# Altium schematic symbol library PCB_XEM-S91.SchLib: 15 symbols
Pins are listed as number, name and electrical type; pins without a type are passive.

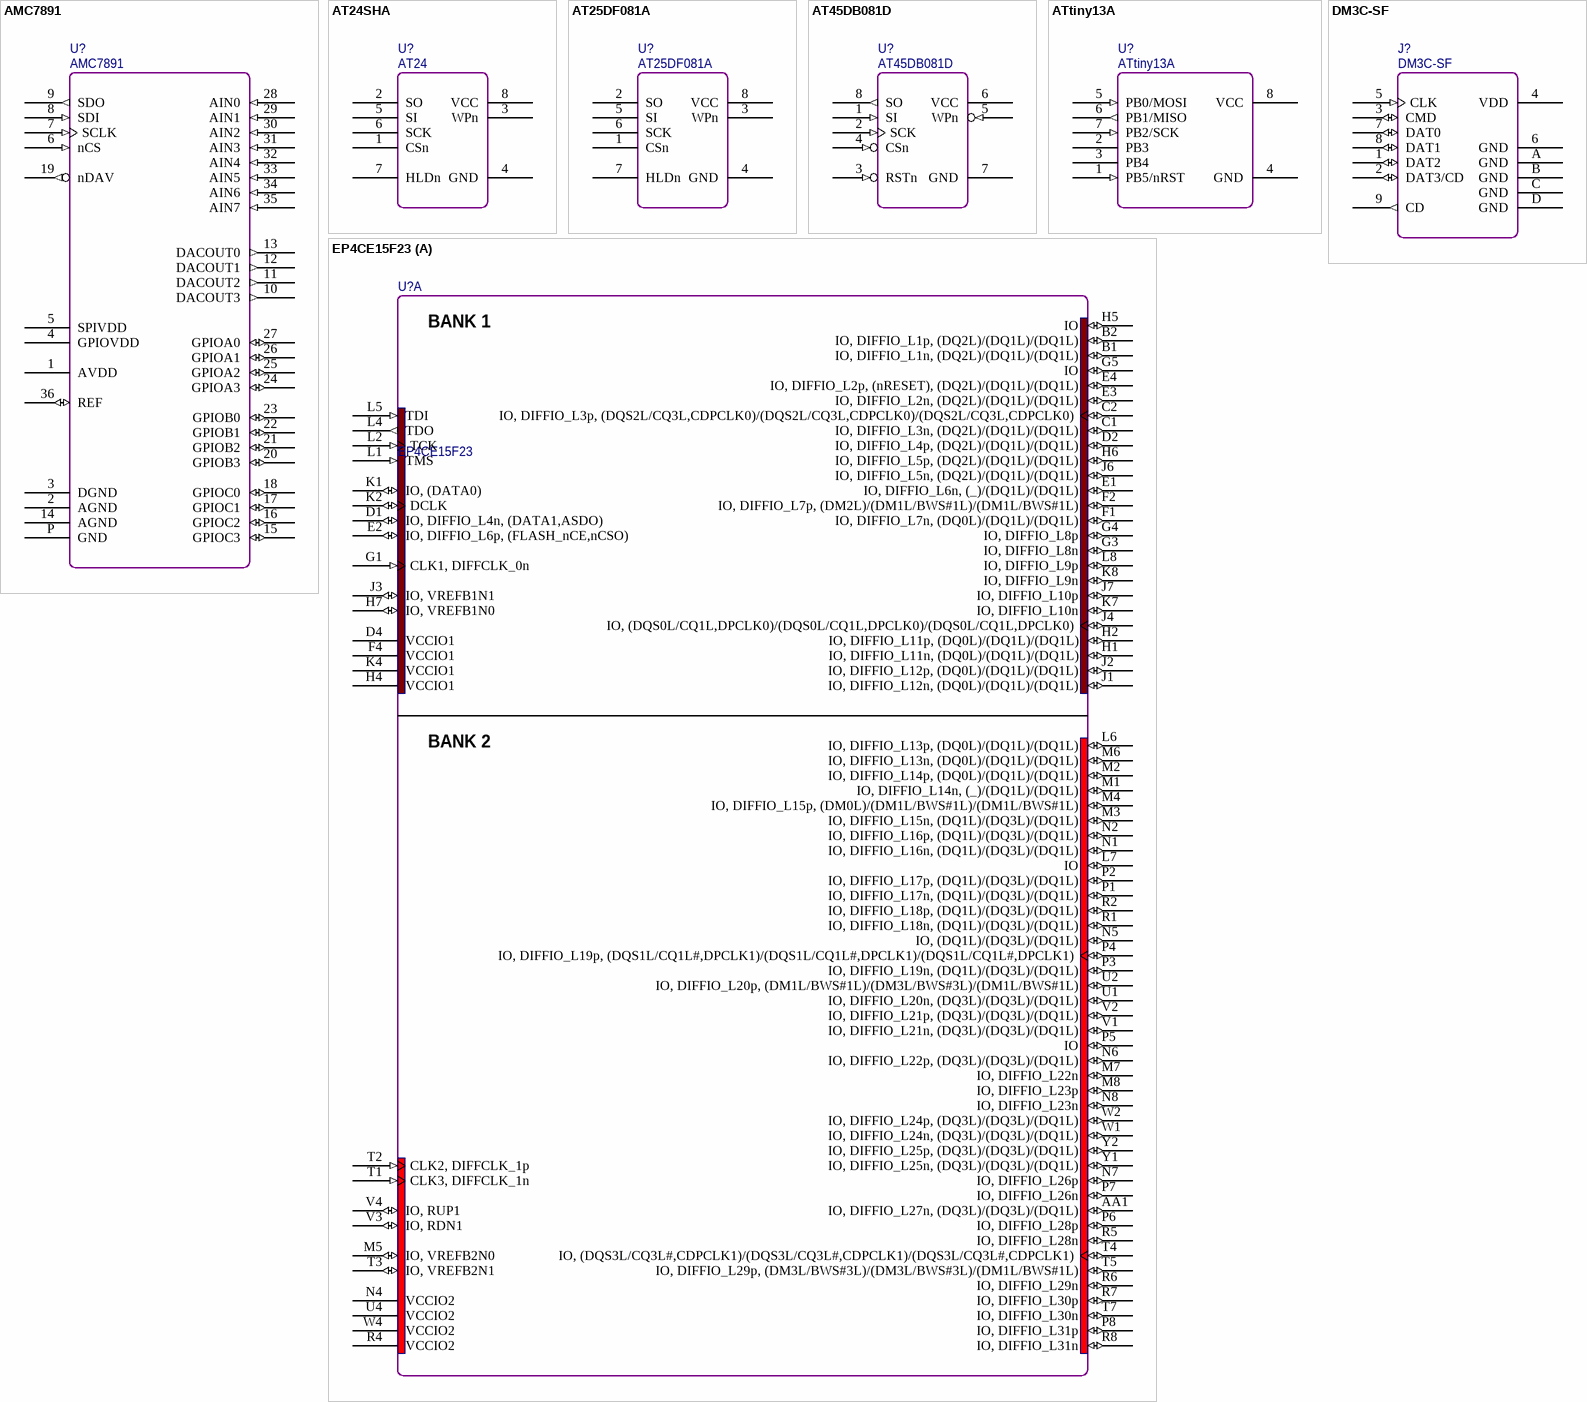
[diagram p0: symbols AMC7891 to EP4CE15F23]

## AMC7891
designator U?
Integrated DAC/ADC; Vendor: TI; SerialNumber: 0; PCBMarker: FET COMP; PinCountSMD: 37; Designer: shyul; PartNumber: AMC7891; Value: AMC7891; Version: 1.0; VersionDate: 02-22-2012; Publisher: Cowin; PinCountHole: 0
footprint QFN-6-36
pins: 1 AVDD, 2 AGND, 3 DGND, 4 GPIOVDD, 5 SPIVDD, 6 nCS (in), 7 SCLK (in), 8 SDI (in), 9 SDO (out), 10 DACOUT3 (out), 11 DACOUT2 (out), 12 DACOUT1 (out), 13 DACOUT0 (out), 14 AGND, 15 GPIOC3 (io), 16 GPIOC2 (io), 17 GPIOC1 (io), 18 GPIOC0 (io), 19 nDAV (out), 20 GPIOB3 (io), 21 GPIOB2 (io), 22 GPIOB1 (io), 23 GPIOB0 (io), 24 GPIOA3 (io), 25 GPIOA2 (io), 26 GPIOA1 (io), 27 GPIOA0 (io), 28 AIN0 (in), 29 AIN1 (in), 30 AIN2 (in), 31 AIN3 (in), 32 AIN4 (in), 33 AIN5 (in), 34 AIN6 (in), 35 AIN7 (in), 36 REF (io), P GND

## AT24SHA
designator U?, comment AT24
Atmel SPI Flash; SerialNumber: 0; PCBMarker: Secured I2C EEPROM; PinCountSMD: 8; Designer: shyul; PartNumber: AT24; Value: AT24; Vendor: Atmel; Version: 1.0; VersionDate: 03-26-2012; Publisher: Cowin; PinCountHole: 0
footprint SOIC-8S
pins: 1 CSn, 2 SO, 3 WPn, 4 GND, 5 SI, 6 SCK, 7 HLDn, 8 VCC

## AT25DF081A
designator U?
Atmel SPI Flash; PartNumber: AT25DF081A-SH; Vendor: Microchip; SerialNumber: 0; PinCountSMD: 8; Designer: shyul; Value: AT25DF081A; Version: 1.0; VersionDate: 03-26-2012; PCBMarker: SPI Flash; Publisher: Cowin; PinCountHole: 0
footprint SOIC-8W
pins: 1 CSn, 2 SO, 3 WPn, 4 GND, 5 SI, 6 SCK, 7 HLDn, 8 VCC

## AT45DB081D
designator U?
Atmel DataFlash; PartNumber: AT45DB081D-MU; Vendor: Microchip; SerialNumber: 0; PinCountSMD: 8; Designer: shyul; Value: AT45DB081D; Version: 1.0; VersionDate: 02-21-2012; PCBMarker: DataFlash; Publisher: Cowin; PinCountHole: 0
footprint SOIC-8W
pins: 1 SI (in), 2 SCK (in), 3 RSTn (in), 4 CSn (in), 5 WPn (in), 6 VCC, 7 GND, 8 SO (out)

## ATtiny13A
designator U?
Atmel SPI Flash; PartNumber: ATtiny13A-SH; Vendor: Microchip; SerialNumber: 0; PinCountSMD: 8; Designer: shyul; Value: ATtiny13A; Version: 1.0; VersionDate: 05-26-2012; PCBMarker: SPI Flash; Publisher: Cowin; PinCountHole: 0
footprint SOIC-8W
pins: 1 PB5/nRST (in), 2 PB3, 3 PB4, 4 GND, 5 PB0/MOSI (in), 6 PB1/MISO (out), 7 PB2/SCK (in), 8 VCC

## DM3C-SF
designator J?
Simple Switch 600mA Adjustable; Vendor: Hirose; PinCountSMD: 13; PinCountHole: 0; Designer: shyul; PCBMarker: SDMicro; Value: DM3C-SF; PartNumber: DM3C-SF; Version: 1.0; VersionDate: 02-23-2012; SerialNumber: 0; Publisher: Cowin
footprint DM3C-SF
pins: 1 DAT2 (io), 2 DAT3/CD (io), 3 CMD (io), 4 VDD, 5 CLK (in), 6 GND, 7 DAT0 (io), 8 DAT1 (io), 9 CD (out), A GND, B GND, C GND, D GND
2 alternate drawings of the same symbol

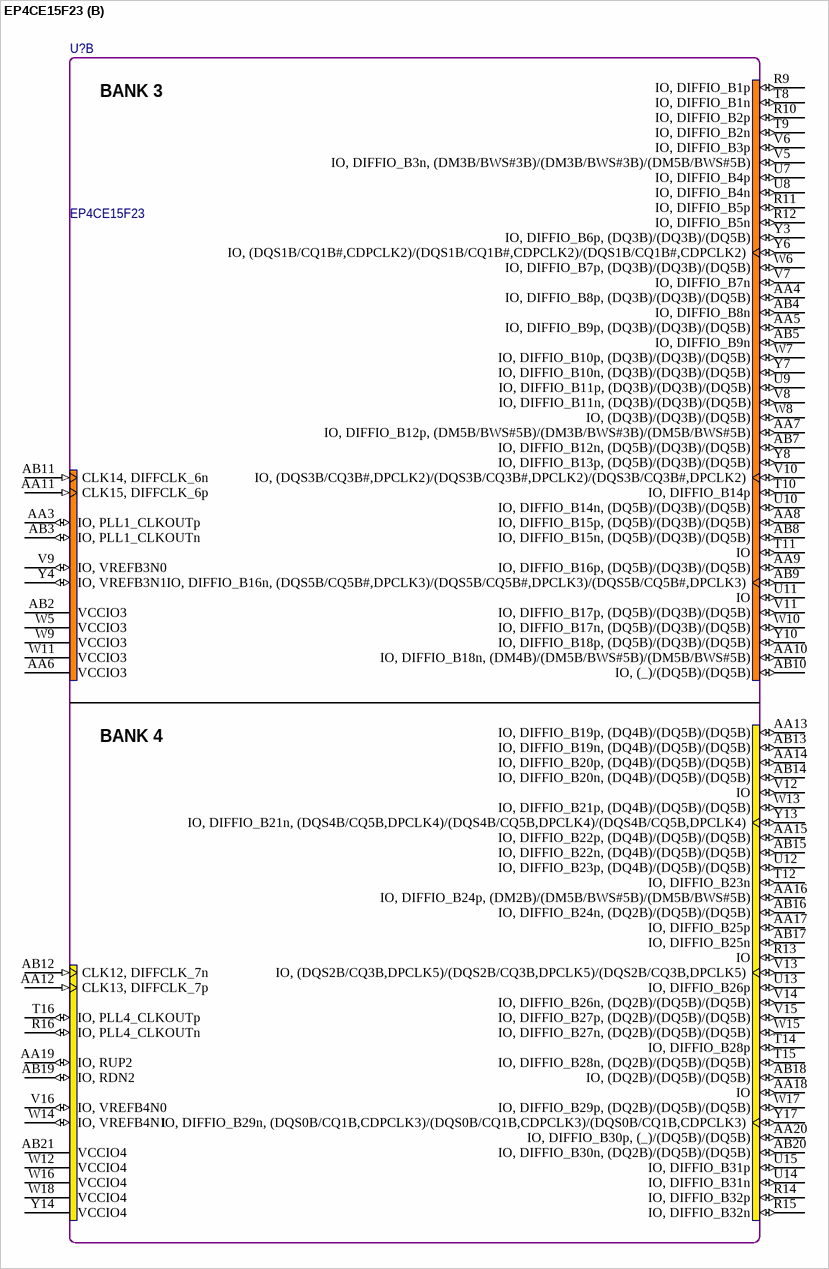
[diagram p1: symbol EP4CE15F23]

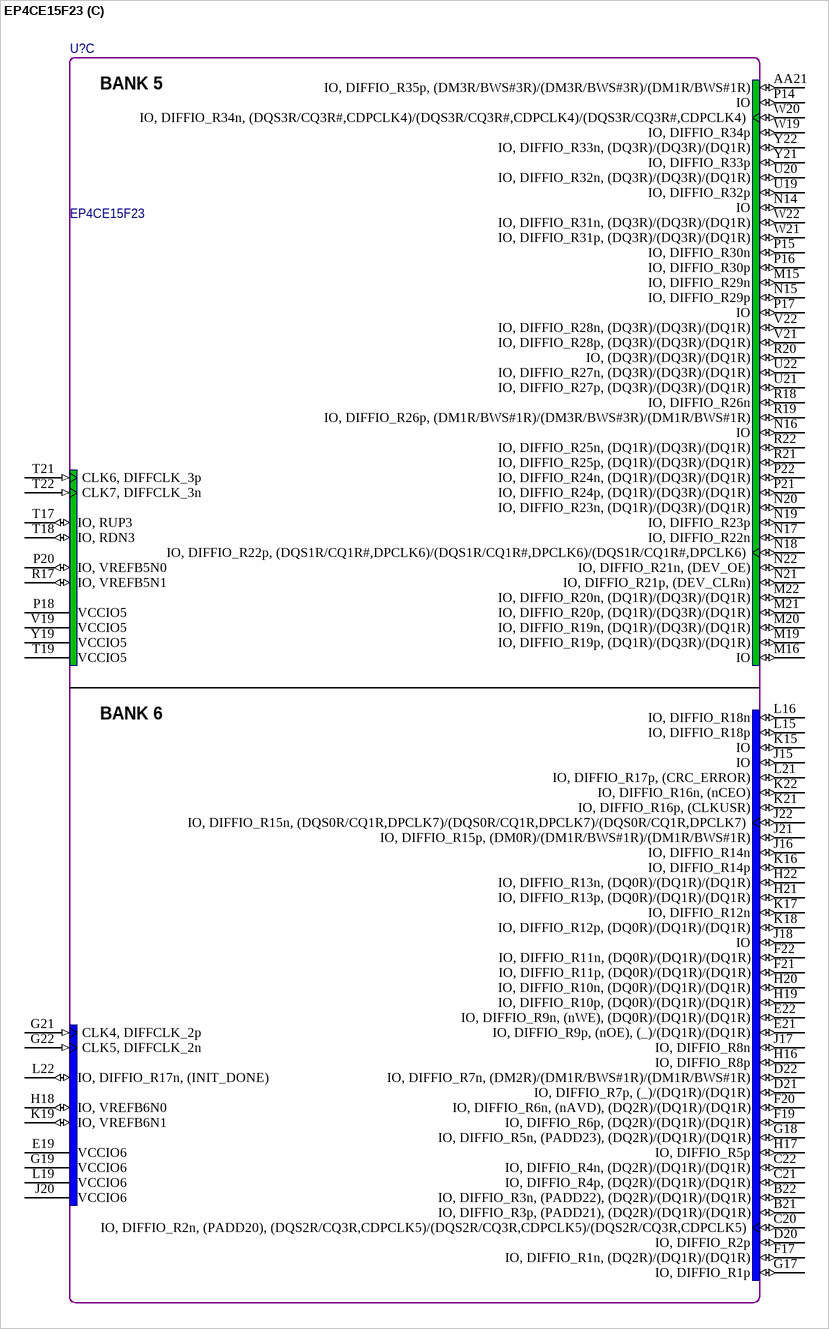
[diagram p2: symbol EP4CE15F23]

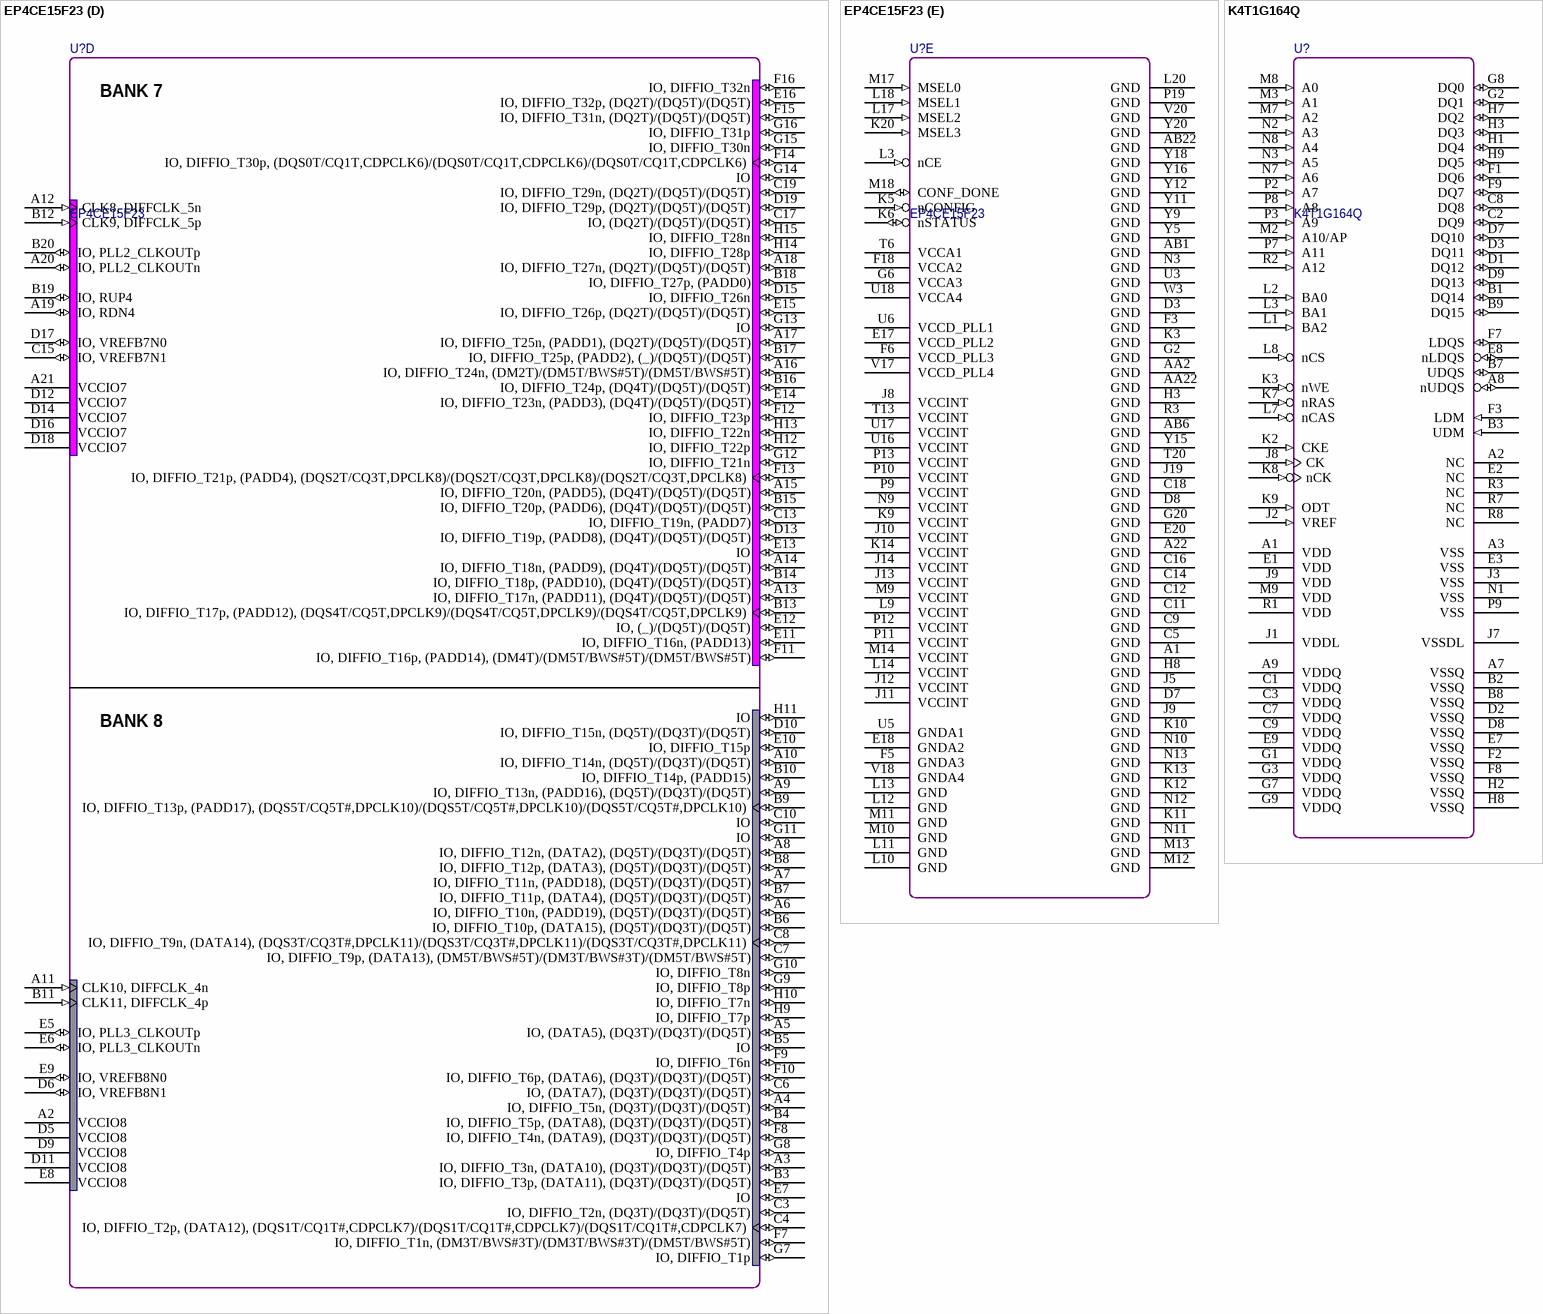
[diagram p3: symbols EP4CE15F23 to K4T1G164Q]

## EP4CE15F23
designator U?
Cyclone IV EP4CE15F23 FPGA; PartNumber: EP4CE15F23C8N; SerialNumber: 0; Vendor: Altera; Designer: shyul; PCBMarker: FPGA; Version: 1.0; VersionDate: 2-17-2012; Value: EP4CE15F23; Publisher: Cowin
footprint FBGA-484 (BGA, 484-Leads, Body 23x23mm, Pitch 1mm)
part A pins: AA1 IO, DIFFIO_L27n, (DQ3L)/(DQ3L)/(DQ1L) (io), B1 IO, DIFFIO_L1n, (DQ2L)/(DQ1L)/(DQ1L) (io), B2 IO, DIFFIO_L1p, (DQ2L)/(DQ1L)/(DQ1L) (io), C1 IO, DIFFIO_L3n, (DQ2L)/(DQ1L)/(DQ1L) (io), C2 IO, DIFFIO_L3p, (DQS2L/CQ3L,CDPCLK0)/(DQS2L/CQ3L,CDPCLK0)/(DQS2L/CQ3L,CDPCLK0) (io), D1 IO, DIFFIO_L4n, (DATA1,ASDO) (io), D2 IO, DIFFIO_L4p, (DQ2L)/(DQ1L)/(DQ1L) (io), D4 VCCIO1 (power), E1 IO, DIFFIO_L6n, (_)/(DQ1L)/(DQ1L) (io), E2 IO, DIFFIO_L6p, (FLASH_nCE,nCSO) (io), E3 IO, DIFFIO_L2n, (DQ2L)/(DQ1L)/(DQ1L) (io), E4 IO, DIFFIO_L2p, (nRESET), (DQ2L)/(DQ1L)/(DQ1L) (io), F1 IO, DIFFIO_L7n, (DQ0L)/(DQ1L)/(DQ1L) (io), F2 IO, DIFFIO_L7p, (DM2L)/(DM1L/BWS#1L)/(DM1L/BWS#1L) (io), F4 VCCIO1 (power), G1 CLK1, DIFFCLK_0n (in), G3 IO, DIFFIO_L8n (io), G4 IO, DIFFIO_L8p (io), G5 IO (io), H1 IO, DIFFIO_L11n, (DQ0L)/(DQ1L)/(DQ1L) (io), H2 IO, DIFFIO_L11p, (DQ0L)/(DQ1L)/(DQ1L) (io), H4 VCCIO1 (power), H5 IO (io), H6 IO, DIFFIO_L5p, (DQ2L)/(DQ1L)/(DQ1L) (io), H7 IO, VREFB1N0 (io), J1 IO, DIFFIO_L12n, (DQ0L)/(DQ1L)/(DQ1L) (io), J2 IO, DIFFIO_L12p, (DQ0L)/(DQ1L)/(DQ1L) (io), J3 IO, VREFB1N1 (io), J4 IO, (DQS0L/CQ1L,DPCLK0)/(DQS0L/CQ1L,DPCLK0)/(DQS0L/CQ1L,DPCLK0) (io), J6 IO, DIFFIO_L5n, (DQ2L)/(DQ1L)/(DQ1L) (io), J7 IO, DIFFIO_L10p (io), K1 IO, (DATA0) (io), K2 DCLK (io), K4 VCCIO1 (power), K7 IO, DIFFIO_L10n (io), K8 IO, DIFFIO_L9n (io), L1 TMS (in), L2 TCK (in), L4 TDO (out), L5 TDI (in), L6 IO, DIFFIO_L13p, (DQ0L)/(DQ1L)/(DQ1L) (io), L7 IO (io), L8 IO, DIFFIO_L9p (io), M1 IO, DIFFIO_L14n, (_)/(DQ1L)/(DQ1L) (io), M2 IO, DIFFIO_L14p, (DQ0L)/(DQ1L)/(DQ1L) (io), M3 IO, DIFFIO_L15n, (DQ1L)/(DQ3L)/(DQ1L) (io), M4 IO, DIFFIO_L15p, (DM0L)/(DM1L/BWS#1L)/(DM1L/BWS#1L) (io), M5 IO, VREFB2N0 (io), M6 IO, DIFFIO_L13n, (DQ0L)/(DQ1L)/(DQ1L) (io), M7 IO, DIFFIO_L22n (io), M8 IO, DIFFIO_L23p (io), N1 IO, DIFFIO_L16n, (DQ1L)/(DQ3L)/(DQ1L) (io), N2 IO, DIFFIO_L16p, (DQ1L)/(DQ3L)/(DQ1L) (io), N4 VCCIO2 (power), N5 IO, (DQ1L)/(DQ3L)/(DQ1L) (io), N6 IO, DIFFIO_L22p, (DQ3L)/(DQ3L)/(DQ1L) (io), N7 IO, DIFFIO_L26p (io), N8 IO, DIFFIO_L23n (io), P1 IO, DIFFIO_L17n, (DQ1L)/(DQ3L)/(DQ1L) (io), P2 IO, DIFFIO_L17p, (DQ1L)/(DQ3L)/(DQ1L) (io), P3 IO, DIFFIO_L19n, (DQ1L)/(DQ3L)/(DQ1L) (io), P4 IO, DIFFIO_L19p, (DQS1L/CQ1L#,DPCLK1)/(DQS1L/CQ1L#,DPCLK1)/(DQS1L/CQ1L#,DPCLK1) (io), P5 IO (io), P6 IO, DIFFIO_L28p (io), P7 IO, DIFFIO_L26n (io), P8 IO, DIFFIO_L31p (io), R1 IO, DIFFIO_L18n, (DQ1L)/(DQ3L)/(DQ1L) (io), R2 IO, DIFFIO_L18p, (DQ1L)/(DQ3L)/(DQ1L) (io), R4 VCCIO2 (power), R5 IO, DIFFIO_L28n (io), R6 IO, DIFFIO_L29n (io), R7 IO, DIFFIO_L30p (io), R8 IO, DIFFIO_L31n (io), T1 CLK3, DIFFCLK_1n (in), T2 CLK2, DIFFCLK_1p (in), T3 IO, VREFB2N1 (io), T4 IO, (DQS3L/CQ3L#,CDPCLK1)/(DQS3L/CQ3L#,CDPCLK1)/(DQS3L/CQ3L#,CDPCLK1) (io), T5 IO, DIFFIO_L29p, (DM3L/BWS#3L)/(DM3L/BWS#3L)/(DM1L/BWS#1L) (io), T7 IO, DIFFIO_L30n (io), U1 IO, DIFFIO_L20n, (DQ3L)/(DQ3L)/(DQ1L) (io), U2 IO, DIFFIO_L20p, (DM1L/BWS#1L)/(DM3L/BWS#3L)/(DM1L/BWS#1L) (io), U4 VCCIO2 (power), V1 IO, DIFFIO_L21n, (DQ3L)/(DQ3L)/(DQ1L) (io), V2 IO, DIFFIO_L21p, (DQ3L)/(DQ3L)/(DQ1L) (io), V3 IO, RDN1 (io), V4 IO, RUP1 (io), W1 IO, DIFFIO_L24n, (DQ3L)/(DQ3L)/(DQ1L) (io), W2 IO, DIFFIO_L24p, (DQ3L)/(DQ3L)/(DQ1L) (io), W4 VCCIO2 (power), Y1 IO, DIFFIO_L25n, (DQ3L)/(DQ3L)/(DQ1L) (io), Y2 IO, DIFFIO_L25p, (DQ3L)/(DQ3L)/(DQ1L) (io)
part B pins: AA3 IO, PLL1_CLKOUTp (io), AA4 IO, DIFFIO_B8p, (DQ3B)/(DQ3B)/(DQ5B) (io), AA5 IO, DIFFIO_B9p, (DQ3B)/(DQ3B)/(DQ5B) (io), AA6 VCCIO3 (power), AA7 IO, DIFFIO_B12p, (DM5B/BWS#5B)/(DM3B/BWS#3B)/(DM5B/BWS#5B) (io), AA8 IO, DIFFIO_B15p, (DQ5B)/(DQ3B)/(DQ5B) (io), AA9 IO, DIFFIO_B16p, (DQ5B)/(DQ3B)/(DQ5B) (io), AA10 IO, DIFFIO_B18n, (DM4B)/(DM5B/BWS#5B)/(DM5B/BWS#5B) (io), AA11 CLK15, DIFFCLK_6p (in), AA12 CLK13, DIFFCLK_7p (in), AA13 IO, DIFFIO_B19p, (DQ4B)/(DQ5B)/(DQ5B) (io), AA14 IO, DIFFIO_B20p, (DQ4B)/(DQ5B)/(DQ5B) (io), AA15 IO, DIFFIO_B22p, (DQ4B)/(DQ5B)/(DQ5B) (io), AA16 IO, DIFFIO_B24p, (DM2B)/(DM5B/BWS#5B)/(DM5B/BWS#5B) (io), AA17 IO, DIFFIO_B25p (io), AA18 IO (io), AA19 IO, RUP2 (io), AA20 IO, DIFFIO_B30p, (_)/(DQ5B)/(DQ5B) (io), AB2 VCCIO3 (power), AB3 IO, PLL1_CLKOUTn (io), AB4 IO, DIFFIO_B8n (io), AB5 IO, DIFFIO_B9n (io), AB7 IO, DIFFIO_B12n, (DQ5B)/(DQ3B)/(DQ5B) (io), AB8 IO, DIFFIO_B15n, (DQ5B)/(DQ3B)/(DQ5B) (io), AB9 IO, DIFFIO_B16n, (DQS5B/CQ5B#,DPCLK3)/(DQS5B/CQ5B#,DPCLK3)/(DQS5B/CQ5B#,DPCLK3) (io), AB10 IO, (_)/(DQ5B)/(DQ5B) (io), AB11 CLK14, DIFFCLK_6n (in), AB12 CLK12, DIFFCLK_7n (in), AB13 IO, DIFFIO_B19n, (DQ4B)/(DQ5B)/(DQ5B) (io), AB14 IO, DIFFIO_B20n, (DQ4B)/(DQ5B)/(DQ5B) (io), AB15 IO, DIFFIO_B22n, (DQ4B)/(DQ5B)/(DQ5B) (io), AB16 IO, DIFFIO_B24n, (DQ2B)/(DQ5B)/(DQ5B) (io), AB17 IO, DIFFIO_B25n (io), AB18 IO, (DQ2B)/(DQ5B)/(DQ5B) (io), AB19 IO, RDN2 (io), AB20 IO, DIFFIO_B30n, (DQ2B)/(DQ5B)/(DQ5B) (io), AB21 VCCIO4 (power), R9 IO, DIFFIO_B1p (io), R10 IO, DIFFIO_B2p (io), R11 IO, DIFFIO_B5p (io), R12 IO, DIFFIO_B5n (io), R13 IO (io), R14 IO, DIFFIO_B32p (io), R15 IO, DIFFIO_B32n (io), R16 IO, PLL4_CLKOUTn (io), T8 IO, DIFFIO_B1n (io), T9 IO, DIFFIO_B2n (io), T10 IO, DIFFIO_B14p (io), T11 IO (io), T12 IO, DIFFIO_B23n (io), T14 IO, DIFFIO_B28p (io), T15 IO, DIFFIO_B28n, (DQ2B)/(DQ5B)/(DQ5B) (io), T16 IO, PLL4_CLKOUTp (io), U7 IO, DIFFIO_B4p (io), U8 IO, DIFFIO_B4n (io), U9 IO, DIFFIO_B11p, (DQ3B)/(DQ3B)/(DQ5B) (io), U10 IO, DIFFIO_B14n, (DQ5B)/(DQ3B)/(DQ5B) (io), U11 IO (io), U12 IO, DIFFIO_B23p, (DQ4B)/(DQ5B)/(DQ5B) (io), U13 IO, DIFFIO_B26p (io), U14 IO, DIFFIO_B31n (io), U15 IO, DIFFIO_B31p (io), V5 IO, DIFFIO_B3n, (DM3B/BWS#3B)/(DM3B/BWS#3B)/(DM5B/BWS#5B) (io), V6 IO, DIFFIO_B3p (io), V7 IO, DIFFIO_B7n (io), V8 IO, DIFFIO_B11n, (DQ3B)/(DQ3B)/(DQ5B) (io), V9 IO, VREFB3N0 (io), V10 IO, (DQS3B/CQ3B#,DPCLK2)/(DQS3B/CQ3B#,DPCLK2)/(DQS3B/CQ3B#,DPCLK2) (io), V11 IO, DIFFIO_B17p, (DQ5B)/(DQ3B)/(DQ5B) (io), V12 IO (io), V13 IO, (DQS2B/CQ3B,DPCLK5)/(DQS2B/CQ3B,DPCLK5)/(DQS2B/CQ3B,DPCLK5) (io), V14 IO, DIFFIO_B26n, (DQ2B)/(DQ5B)/(DQ5B) (io), V15 IO, DIFFIO_B27p, (DQ2B)/(DQ5B)/(DQ5B) (io), V16 IO, VREFB4N0 (io), W5 VCCIO3 (power), W6 IO, DIFFIO_B7p, (DQ3B)/(DQ3B)/(DQ5B) (io), W7 IO, DIFFIO_B10p, (DQ3B)/(DQ3B)/(DQ5B) (io), W8 IO, (DQ3B)/(DQ3B)/(DQ5B) (io), W9 VCCIO3 (power), W10 IO, DIFFIO_B17n, (DQ5B)/(DQ3B)/(DQ5B) (io), W11 VCCIO3 (power), W12 VCCIO4 (power), W13 IO, DIFFIO_B21p, (DQ4B)/(DQ5B)/(DQ5B) (io), W14 IO, VREFB4N1 (io), W15 IO, DIFFIO_B27n, (DQ2B)/(DQ5B)/(DQ5B) (io), W16 VCCIO4 (power), W17 IO, DIFFIO_B29p, (DQ2B)/(DQ5B)/(DQ5B) (io), W18 VCCIO4 (power), Y3 IO, DIFFIO_B6p, (DQ3B)/(DQ3B)/(DQ5B) (io), Y4 IO, VREFB3N1 (io), Y6 IO, (DQS1B/CQ1B#,CDPCLK2)/(DQS1B/CQ1B#,CDPCLK2)/(DQS1B/CQ1B#,CDPCLK2) (io), Y7 IO, DIFFIO_B10n, (DQ3B)/(DQ3B)/(DQ5B) (io), Y8 IO, DIFFIO_B13p, (DQ5B)/(DQ3B)/(DQ5B) (io), Y10 IO, DIFFIO_B18p, (DQ5B)/(DQ3B)/(DQ5B) (io), Y13 IO, DIFFIO_B21n, (DQS4B/CQ5B,DPCLK4)/(DQS4B/CQ5B,DPCLK4)/(DQS4B/CQ5B,DPCLK4) (io), Y14 VCCIO4 (power), Y17 IO, DIFFIO_B29n, (DQS0B/CQ1B,CDPCLK3)/(DQS0B/CQ1B,CDPCLK3)/(DQS0B/CQ1B,CDPCLK3) (io)
part C pins: AA21 IO, DIFFIO_R35p, (DM3R/BWS#3R)/(DM3R/BWS#3R)/(DM1R/BWS#1R) (io), B21 IO, DIFFIO_R3p, (PADD21), (DQ2R)/(DQ1R)/(DQ1R) (io), B22 IO, DIFFIO_R3n, (PADD22), (DQ2R)/(DQ1R)/(DQ1R) (io), C20 IO, DIFFIO_R2n, (PADD20), (DQS2R/CQ3R,CDPCLK5)/(DQS2R/CQ3R,CDPCLK5)/(DQS2R/CQ3R,CDPCLK5) (io), C21 IO, DIFFIO_R4p, (DQ2R)/(DQ1R)/(DQ1R) (io), C22 IO, DIFFIO_R4n, (DQ2R)/(DQ1R)/(DQ1R) (io), D20 IO, DIFFIO_R2p (io), D21 IO, DIFFIO_R7p, (_)/(DQ1R)/(DQ1R) (io), D22 IO, DIFFIO_R7n, (DM2R)/(DM1R/BWS#1R)/(DM1R/BWS#1R) (io), E19 VCCIO6 (power), E21 IO, DIFFIO_R9p, (nOE), (_)/(DQ1R)/(DQ1R) (io), E22 IO, DIFFIO_R9n, (nWE), (DQ0R)/(DQ1R)/(DQ1R) (io), F17 IO, DIFFIO_R1n, (DQ2R)/(DQ1R)/(DQ1R) (io), F19 IO, DIFFIO_R6p, (DQ2R)/(DQ1R)/(DQ1R) (io), F20 IO, DIFFIO_R6n, (nAVD), (DQ2R)/(DQ1R)/(DQ1R) (io), F21 IO, DIFFIO_R11p, (DQ0R)/(DQ1R)/(DQ1R) (io), F22 IO, DIFFIO_R11n, (DQ0R)/(DQ1R)/(DQ1R) (io), G17 IO, DIFFIO_R1p (io), G18 IO, DIFFIO_R5n, (PADD23), (DQ2R)/(DQ1R)/(DQ1R) (io), G19 VCCIO6 (power), G21 CLK4, DIFFCLK_2p (in), G22 CLK5, DIFFCLK_2n (in), H16 IO, DIFFIO_R8p (io), H17 IO, DIFFIO_R5p (io), H18 IO, VREFB6N0 (io), H19 IO, DIFFIO_R10p, (DQ0R)/(DQ1R)/(DQ1R) (io), H20 IO, DIFFIO_R10n, (DQ0R)/(DQ1R)/(DQ1R) (io), H21 IO, DIFFIO_R13p, (DQ0R)/(DQ1R)/(DQ1R) (io), H22 IO, DIFFIO_R13n, (DQ0R)/(DQ1R)/(DQ1R) (io), J15 IO (io), J16 IO, DIFFIO_R14n (io), J17 IO, DIFFIO_R8n (io), J18 IO (io), J20 VCCIO6 (power), J21 IO, DIFFIO_R15p, (DM0R)/(DM1R/BWS#1R)/(DM1R/BWS#1R) (io), J22 IO, DIFFIO_R15n, (DQS0R/CQ1R,DPCLK7)/(DQS0R/CQ1R,DPCLK7)/(DQS0R/CQ1R,DPCLK7) (io), K15 IO (io), K16 IO, DIFFIO_R14p (io), K17 IO, DIFFIO_R12n (io), K18 IO, DIFFIO_R12p, (DQ0R)/(DQ1R)/(DQ1R) (io), K19 IO, VREFB6N1 (io), K21 IO, DIFFIO_R16p, (CLKUSR) (io), K22 IO, DIFFIO_R16n, (nCEO) (io), L15 IO, DIFFIO_R18p (io), L16 IO, DIFFIO_R18n (io), L19 VCCIO6 (power), L21 IO, DIFFIO_R17p, (CRC_ERROR) (io), L22 IO, DIFFIO_R17n, (INIT_DONE) (io), M15 IO, DIFFIO_R29n (io), M16 IO (io), M19 IO, DIFFIO_R19p, (DQ1R)/(DQ3R)/(DQ1R) (io), M20 IO, DIFFIO_R19n, (DQ1R)/(DQ3R)/(DQ1R) (io), M21 IO, DIFFIO_R20p, (DQ1R)/(DQ3R)/(DQ1R) (io), M22 IO, DIFFIO_R20n, (DQ1R)/(DQ3R)/(DQ1R) (io), N14 IO (io), N15 IO, DIFFIO_R29p (io), N16 IO (io), N17 IO, DIFFIO_R22n (io), N18 IO, DIFFIO_R22p, (DQS1R/CQ1R#,DPCLK6)/(DQS1R/CQ1R#,DPCLK6)/(DQS1R/CQ1R#,DPCLK6) (io), N19 IO, DIFFIO_R23p (io), N20 IO, DIFFIO_R23n, (DQ1R)/(DQ3R)/(DQ1R) (io), N21 IO, DIFFIO_R21p, (DEV_CLRn) (io), N22 IO, DIFFIO_R21n, (DEV_OE) (io), P14 IO (io), P15 IO, DIFFIO_R30n (io), P16 IO, DIFFIO_R30p (io), P17 IO (io), P18 VCCIO5 (power), P20 IO, VREFB5N0 (io), P21 IO, DIFFIO_R24p, (DQ1R)/(DQ3R)/(DQ1R) (io), P22 IO, DIFFIO_R24n, (DQ1R)/(DQ3R)/(DQ1R) (io), R17 IO, VREFB5N1 (io), R18 IO, DIFFIO_R26n (io), R19 IO, DIFFIO_R26p, (DM1R/BWS#1R)/(DM3R/BWS#3R)/(DM1R/BWS#1R) (io), R20 IO, (DQ3R)/(DQ3R)/(DQ1R) (io), R21 IO, DIFFIO_R25p, (DQ1R)/(DQ3R)/(DQ1R) (io), R22 IO, DIFFIO_R25n, (DQ1R)/(DQ3R)/(DQ1R) (io), T17 IO, RUP3 (io), T18 IO, RDN3 (io), T19 VCCIO5 (power), T21 CLK6, DIFFCLK_3p (in), T22 CLK7, DIFFCLK_3n (in), U19 IO, DIFFIO_R32p (io), U20 IO, DIFFIO_R32n, (DQ3R)/(DQ3R)/(DQ1R) (io), U21 IO, DIFFIO_R27p, (DQ3R)/(DQ3R)/(DQ1R) (io), U22 IO, DIFFIO_R27n, (DQ3R)/(DQ3R)/(DQ1R) (io), V19 VCCIO5 (power), V21 IO, DIFFIO_R28p, (DQ3R)/(DQ3R)/(DQ1R) (io), V22 IO, DIFFIO_R28n, (DQ3R)/(DQ3R)/(DQ1R) (io), W19 IO, DIFFIO_R34p (io), W20 IO, DIFFIO_R34n, (DQS3R/CQ3R#,CDPCLK4)/(DQS3R/CQ3R#,CDPCLK4)/(DQS3R/CQ3R#,CDPCLK4) (io), W21 IO, DIFFIO_R31p, (DQ3R)/(DQ3R)/(DQ1R) (io), W22 IO, DIFFIO_R31n, (DQ3R)/(DQ3R)/(DQ1R) (io), Y19 VCCIO5 (power), Y21 IO, DIFFIO_R33p (io), Y22 IO, DIFFIO_R33n, (DQ3R)/(DQ3R)/(DQ1R) (io)
part D pins: A2 VCCIO8 (power), A3 IO, DIFFIO_T3n, (DATA10), (DQ3T)/(DQ3T)/(DQ5T) (io), A4 IO, DIFFIO_T5n, (DQ3T)/(DQ3T)/(DQ5T) (io), A5 IO, (DATA5), (DQ3T)/(DQ3T)/(DQ5T) (io), A6 IO, DIFFIO_T10n, (PADD19), (DQ5T)/(DQ3T)/(DQ5T) (io), A7 IO, DIFFIO_T11n, (PADD18), (DQ5T)/(DQ3T)/(DQ5T) (io), A8 IO, DIFFIO_T12n, (DATA2), (DQ5T)/(DQ3T)/(DQ5T) (io), A9 IO, DIFFIO_T13n, (PADD16), (DQ5T)/(DQ3T)/(DQ5T) (io), A10 IO, DIFFIO_T14n, (DQ5T)/(DQ3T)/(DQ5T) (io), A11 CLK10, DIFFCLK_4n (in), A12 CLK8, DIFFCLK_5n (in), A13 IO, DIFFIO_T17n, (PADD11), (DQ4T)/(DQ5T)/(DQ5T) (io), A14 IO, DIFFIO_T18n, (PADD9), (DQ4T)/(DQ5T)/(DQ5T) (io), A15 IO, DIFFIO_T20n, (PADD5), (DQ4T)/(DQ5T)/(DQ5T) (io), A16 IO, DIFFIO_T24n, (DM2T)/(DM5T/BWS#5T)/(DM5T/BWS#5T) (io), A17 IO, DIFFIO_T25n, (PADD1), (DQ2T)/(DQ5T)/(DQ5T) (io), A18 IO, DIFFIO_T27n, (DQ2T)/(DQ5T)/(DQ5T) (io), A19 IO, RDN4 (io), A20 IO, PLL2_CLKOUTn (io), A21 VCCIO7 (power), B3 IO, DIFFIO_T3p, (DATA11), (DQ3T)/(DQ3T)/(DQ5T) (io), B4 IO, DIFFIO_T5p, (DATA8), (DQ3T)/(DQ3T)/(DQ5T) (io), B5 IO (io), B6 IO, DIFFIO_T10p, (DATA15), (DQ5T)/(DQ3T)/(DQ5T) (io), B7 IO, DIFFIO_T11p, (DATA4), (DQ5T)/(DQ3T)/(DQ5T) (io), B8 IO, DIFFIO_T12p, (DATA3), (DQ5T)/(DQ3T)/(DQ5T) (io), B9 IO, DIFFIO_T13p, (PADD17), (DQS5T/CQ5T#,DPCLK10)/(DQS5T/CQ5T#,DPCLK10)/(DQS5T/CQ5T#,DPCLK10) (io), B10 IO, DIFFIO_T14p, (PADD15) (io), B11 CLK11, DIFFCLK_4p (in), B12 CLK9, DIFFCLK_5p (in), B13 IO, DIFFIO_T17p, (PADD12), (DQS4T/CQ5T,DPCLK9)/(DQS4T/CQ5T,DPCLK9)/(DQS4T/CQ5T,DPCLK9) (io), B14 IO, DIFFIO_T18p, (PADD10), (DQ4T)/(DQ5T)/(DQ5T) (io), B15 IO, DIFFIO_T20p, (PADD6), (DQ4T)/(DQ5T)/(DQ5T) (io), B16 IO, DIFFIO_T24p, (DQ4T)/(DQ5T)/(DQ5T) (io), B17 IO, DIFFIO_T25p, (PADD2), (_)/(DQ5T)/(DQ5T) (io), B18 IO, DIFFIO_T27p, (PADD0) (io), B19 IO, RUP4 (io), B20 IO, PLL2_CLKOUTp (io), C3 IO, DIFFIO_T2n, (DQ3T)/(DQ3T)/(DQ5T) (io), C4 IO, DIFFIO_T2p, (DATA12), (DQS1T/CQ1T#,CDPCLK7)/(DQS1T/CQ1T#,CDPCLK7)/(DQS1T/CQ1T#,CDPCLK7) (io), C6 IO, (DATA7), (DQ3T)/(DQ3T)/(DQ5T) (io), C7 IO, DIFFIO_T9p, (DATA13), (DM5T/BWS#5T)/(DM3T/BWS#3T)/(DM5T/BWS#5T) (io), C8 IO, DIFFIO_T9n, (DATA14), (DQS3T/CQ3T#,DPCLK11)/(DQS3T/CQ3T#,DPCLK11)/(DQS3T/CQ3T#,DPCLK11) (io), C10 IO (io), C13 IO, DIFFIO_T19n, (PADD7) (io), C15 IO, VREFB7N1 (io), C17 IO, (DQ2T)/(DQ5T)/(DQ5T) (io), C19 IO, DIFFIO_T29n, (DQ2T)/(DQ5T)/(DQ5T) (io), D5 VCCIO8 (power), D6 IO, VREFB8N1 (io), D9 VCCIO8 (power), D10 IO, DIFFIO_T15n, (DQ5T)/(DQ3T)/(DQ5T) (io), D11 VCCIO8 (power), D12 VCCIO7 (power), D13 IO, DIFFIO_T19p, (PADD8), (DQ4T)/(DQ5T)/(DQ5T) (io), D14 VCCIO7 (power), D15 IO, DIFFIO_T26n (io), D16 VCCIO7 (power), D17 IO, VREFB7N0 (io), D18 VCCIO7 (power), D19 IO, DIFFIO_T29p, (DQ2T)/(DQ5T)/(DQ5T) (io), E5 IO, PLL3_CLKOUTp (io), E6 IO, PLL3_CLKOUTn (io), E7 IO (io), E8 VCCIO8 (power), E9 IO, VREFB8N0 (io), E10 IO, DIFFIO_T15p (io), E11 IO, DIFFIO_T16n, (PADD13) (io), E12 IO, (_)/(DQ5T)/(DQ5T) (io), E13 IO (io), E14 IO, DIFFIO_T23n, (PADD3), (DQ4T)/(DQ5T)/(DQ5T) (io), E15 IO, DIFFIO_T26p, (DQ2T)/(DQ5T)/(DQ5T) (io), E16 IO, DIFFIO_T32p, (DQ2T)/(DQ5T)/(DQ5T) (io), F7 IO, DIFFIO_T1n, (DM3T/BWS#3T)/(DM3T/BWS#3T)/(DM5T/BWS#5T) (io), F8 IO, DIFFIO_T4n, (DATA9), (DQ3T)/(DQ3T)/(DQ5T) (io), F9 IO, DIFFIO_T6n (io), F10 IO, DIFFIO_T6p, (DATA6), (DQ3T)/(DQ3T)/(DQ5T) (io), F11 IO, DIFFIO_T16p, (PADD14), (DM4T)/(DM5T/BWS#5T)/(DM5T/BWS#5T) (io), F12 IO, DIFFIO_T23p (io), F13 IO, DIFFIO_T21p, (PADD4), (DQS2T/CQ3T,DPCLK8)/(DQS2T/CQ3T,DPCLK8)/(DQS2T/CQ3T,DPCLK8) (io), F14 IO, DIFFIO_T30p, (DQS0T/CQ1T,CDPCLK6)/(DQS0T/CQ1T,CDPCLK6)/(DQS0T/CQ1T,CDPCLK6) (io), F15 IO, DIFFIO_T31n, (DQ2T)/(DQ5T)/(DQ5T) (io), F16 IO, DIFFIO_T32n (io), G7 IO, DIFFIO_T1p (io), G8 IO, DIFFIO_T4p (io), G9 IO, DIFFIO_T8p (io), G10 IO, DIFFIO_T8n (io), G11 IO (io), G12 IO, DIFFIO_T21n (io), G13 IO (io), G14 IO (io), G15 IO, DIFFIO_T30n (io), G16 IO, DIFFIO_T31p (io), H9 IO, DIFFIO_T7p (io), H10 IO, DIFFIO_T7n (io), H11 IO (io), H12 IO, DIFFIO_T22p (io), H13 IO, DIFFIO_T22n (io), H14 IO, DIFFIO_T28p (io), H15 IO, DIFFIO_T28n (io)
part E pins: A1 GND (power), A22 GND (power), AA2 GND (power), AA22 GND (power), AB1 GND (power), AB6 GND (power), AB22 GND (power), C5 GND (power), C9 GND (power), C11 GND (power), C12 GND (power), C14 GND (power), C16 GND (power), C18 GND (power), D3 GND (power), D7 GND (power), D8 GND (power), E17 VCCD_PLL2 (power), E18 GNDA2 (power), E20 GND (power), F3 GND (power), F5 GNDA3 (power), F6 VCCD_PLL3 (power), F18 VCCA2 (power), G2 GND (power), G6 VCCA3 (power), G20 GND (power), H3 GND (power), H8 GND (power), J5 GND (power), J8 VCCINT (power), J9 GND (power), J10 VCCINT (power), J11 VCCINT (power), J12 VCCINT (power), J13 VCCINT (power), J14 VCCINT (power), J19 GND (power), K3 GND (power), K5 nCONFIG (in), K6 nSTATUS (io), K9 VCCINT (power), K10 GND (power), K11 GND (power), K12 GND (power), K13 GND (power), K14 VCCINT (power), K20 MSEL3 (in), L3 nCE (in), L9 VCCINT (power), L10 GND (power), L11 GND (power), L12 GND (power), L13 GND (power), L14 VCCINT (power), L17 MSEL2 (in), L18 MSEL1 (in), L20 GND (power), M9 VCCINT (power), M10 GND (power), M11 GND (power), M12 GND (power), M13 GND (power), M14 VCCINT (power), M17 MSEL0 (in), M18 CONF_DONE (io), N3 GND (power), N9 VCCINT (power), N10 GND (power), N11 GND (power), N12 GND (power), N13 GND (power), P9 VCCINT (power), P10 VCCINT (power), P11 VCCINT (power), P12 VCCINT (power), P13 VCCINT (power), P19 GND (power), R3 GND (power), T6 VCCA1 (power), T13 VCCINT (power), T20 GND (power), U3 GND (power), U5 GNDA1 (power), U6 VCCD_PLL1 (power), U16 VCCINT (power), U17 VCCINT (power), U18 VCCA4 (power), V17 VCCD_PLL4 (power), V18 GNDA4 (power), V20 GND (power), W3 GND (power), Y5 GND (power), Y9 GND (power), Y11 GND (power), Y12 GND (power), Y15 GND (power), Y16 GND (power), Y18 GND (power), Y20 GND (power)
part A text: BANK 1; BANK 2
part B text: BANK 3; BANK 4
part C text: BANK 5; BANK 6
part D text: BANK 7; BANK 8

## K4T1G164Q
designator U?
K4T1G164Q 64M x16 DDR2 SDRAM; PartNumber: K4T1G164QF-BCE7; SerialNumber: 0; Vendor: SUMSUNG; Designer: shyul; PCBMarker: DDR2; Version: 1.0; VersionDate: 2-16-2012; Value: K4T1G164Q; Publisher: Cowin
footprint FBGA-DDR-84
pins: A1 VDD, A2 NC, A3 VSS, A7 VSSQ, A8 nUDQS (io), A9 VDDQ, B1 DQ14 (io), B2 VSSQ, B3 UDM (in), B7 UDQS (io), B8 VSSQ, B9 DQ15 (io), C1 VDDQ, C2 DQ9 (io), C3 VDDQ, C7 VDDQ, C8 DQ8 (io), C9 VDDQ, D1 DQ12 (io), D2 VSSQ, D3 DQ11 (io), D7 DQ10 (io), D8 VSSQ, D9 DQ13 (io), E1 VDD, E2 NC, E3 VSS, E7 VSSQ, E8 nLDQS (io), E9 VDDQ, F1 DQ6 (io), F2 VSSQ, F3 LDM (in), F7 LDQS (io), F8 VSSQ, F9 DQ7 (io), G1 VDDQ, G2 DQ1 (io), G3 VDDQ, G7 VDDQ, G8 DQ0 (io), G9 VDDQ, H1 DQ4 (io), H2 VSSQ, H3 DQ3 (io), H7 DQ2 (io), H8 VSSQ, H9 DQ5 (io), J1 VDDL, J2 VREF (in), J3 VSS, J7 VSSDL, J8 CK (in), J9 VDD, K2 CKE (in), K3 nWE (in), K7 nRAS (in), K8 nCK (in), K9 ODT (in), L1 BA2 (in), L2 BA0 (in), L3 BA1 (in), L7 nCAS (in), L8 nCS (in), M2 A10/AP (in), M3 A1 (in), M7 A2 (in), M8 A0 (in), M9 VDD, N1 VSS, N2 A3 (in), N3 A5 (in), N7 A6 (in), N8 A4 (in), P2 A7 (in), P3 A9 (in), P7 A11 (in), P8 A8 (in), P9 VSS, R1 VDD, R2 A12 (in), R3 NC, R7 NC, R8 NC

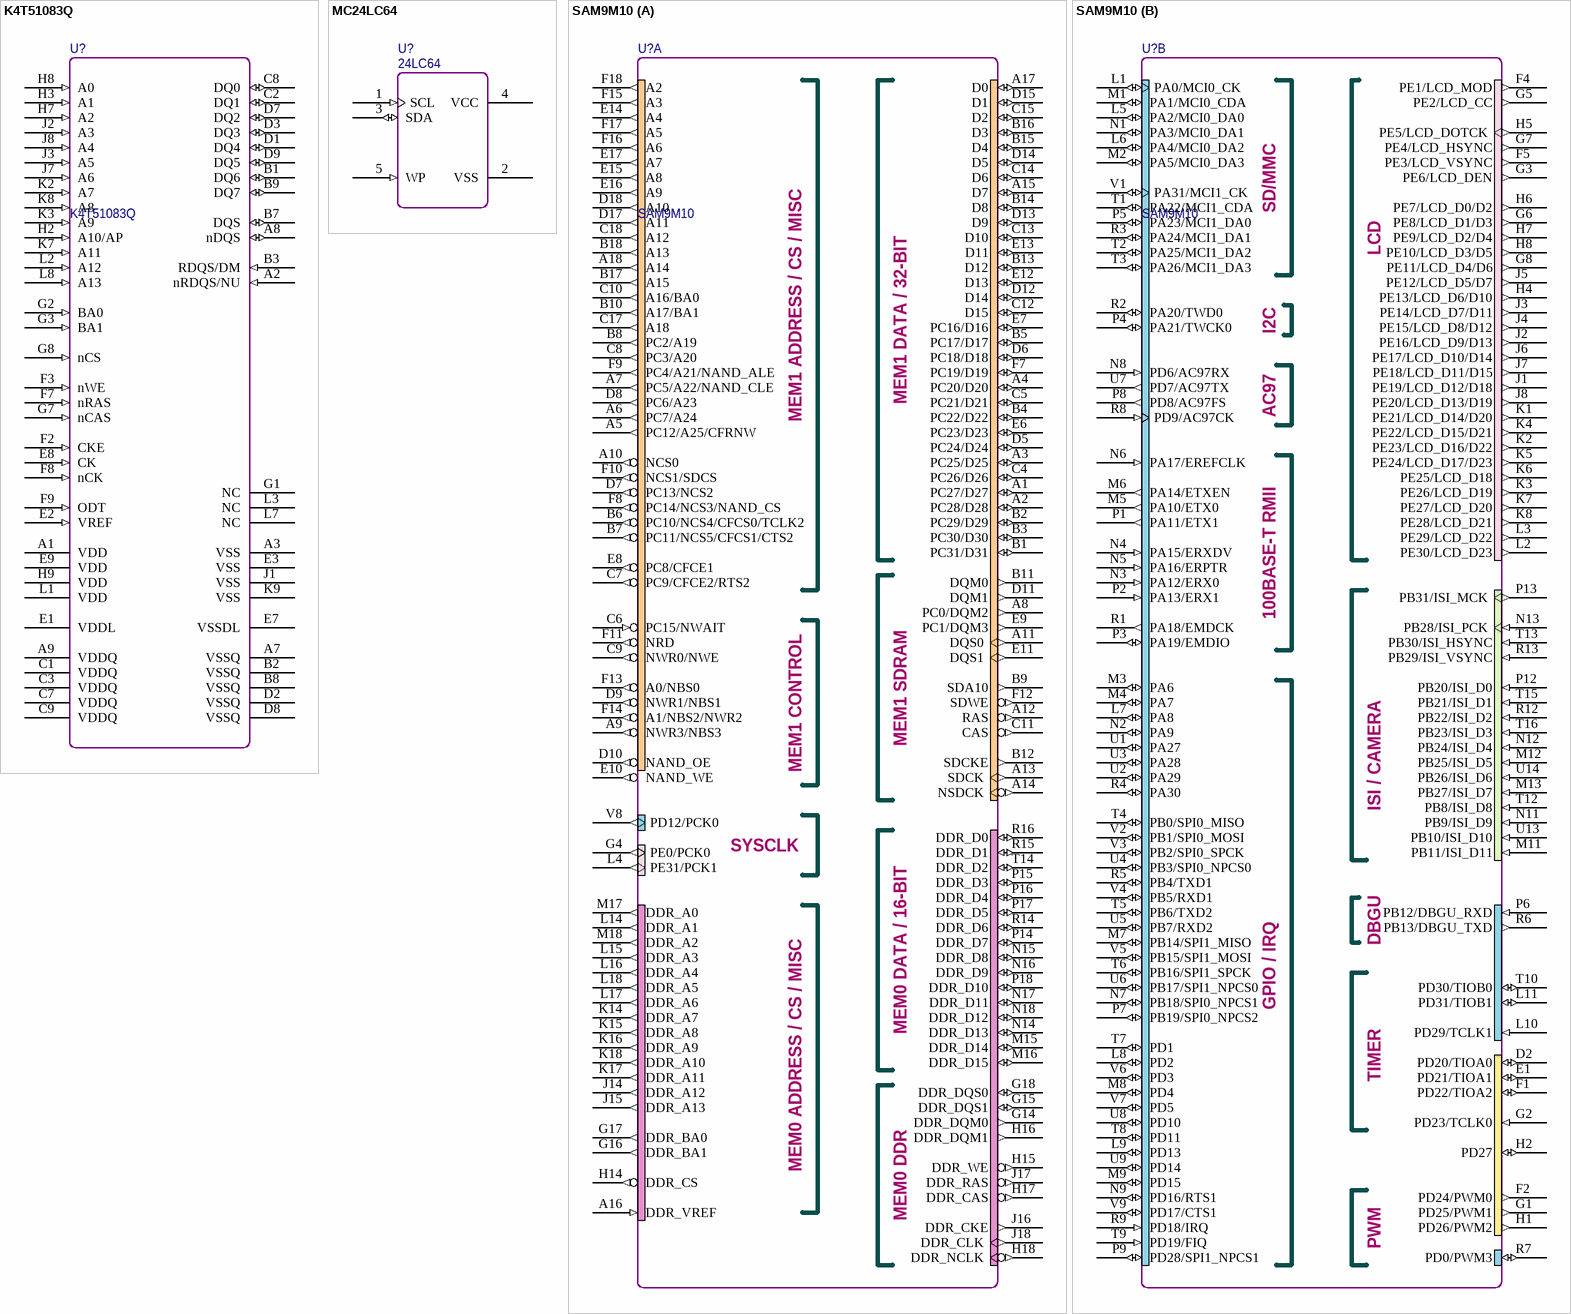
[diagram p4: symbols K4T51083Q to SAM9M10]

## K4T51083Q
designator U?
K4T51083Q 64M x8 DDR2 SDRAM; PartNumber: K4T51083QI-BCE7; SerialNumber: 0; Vendor: SUMSUNG; Designer: shyul; PCBMarker: DDR2; Version: 1.0; VersionDate: 2-16-2012; Value: K4T51083Q; Publisher: Cowin
footprint FBGA-DDR-60
pins: A1 VDD, A2 nRDQS/NU (in), A3 VSS, A7 VSSQ, A8 nDQS (io), A9 VDDQ, B1 DQ6 (io), B2 VSSQ, B3 RDQS/DM (in), B7 DQS (io), B8 VSSQ, B9 DQ7 (io), C1 VDDQ, C2 DQ1 (io), C3 VDDQ, C7 VDDQ, C8 DQ0 (io), C9 VDDQ, D1 DQ4 (io), D2 VSSQ, D3 DQ3 (io), D7 DQ2 (io), D8 VSSQ, D9 DQ5 (io), E1 VDDL, E2 VREF (in), E3 VSS, E7 VSSDL, E8 CK (in), E9 VDD, F2 CKE (in), F3 nWE (in), F7 nRAS (in), F8 nCK (in), F9 ODT (in), G1 NC, G2 BA0 (in), G3 BA1 (in), G7 nCAS (in), G8 nCS (in), H2 A10/AP (in), H3 A1 (in), H7 A2 (in), H8 A0 (in), H9 VDD, J1 VSS, J2 A3 (in), J3 A5 (in), J7 A6 (in), J8 A4 (in), K2 A7 (in), K3 A9 (in), K7 A11 (in), K8 A8 (in), K9 VSS, L1 VDD, L2 A12 (in), L3 NC, L7 NC, L8 A13 (in)

## MC24LC64
designator U?, comment 24LC64
SOT Package I2C EEPROM; PartNumber: 24LC64-7GNN; Vendor: Microchip; SerialNumber: 0; PCBMarker: I2C ROM; PinCountSMD: 5; Designer: shyul; Value: 24LC64; Version: 1.0; VersionDate: 06-11-2011; Publisher: Cowin; PinCountHole: 0
footprint SOT-23-5
pins: 1 SCL (in), 2 VSS (power), 3 SDA (io), 4 VCC (power), 5 WP (in)

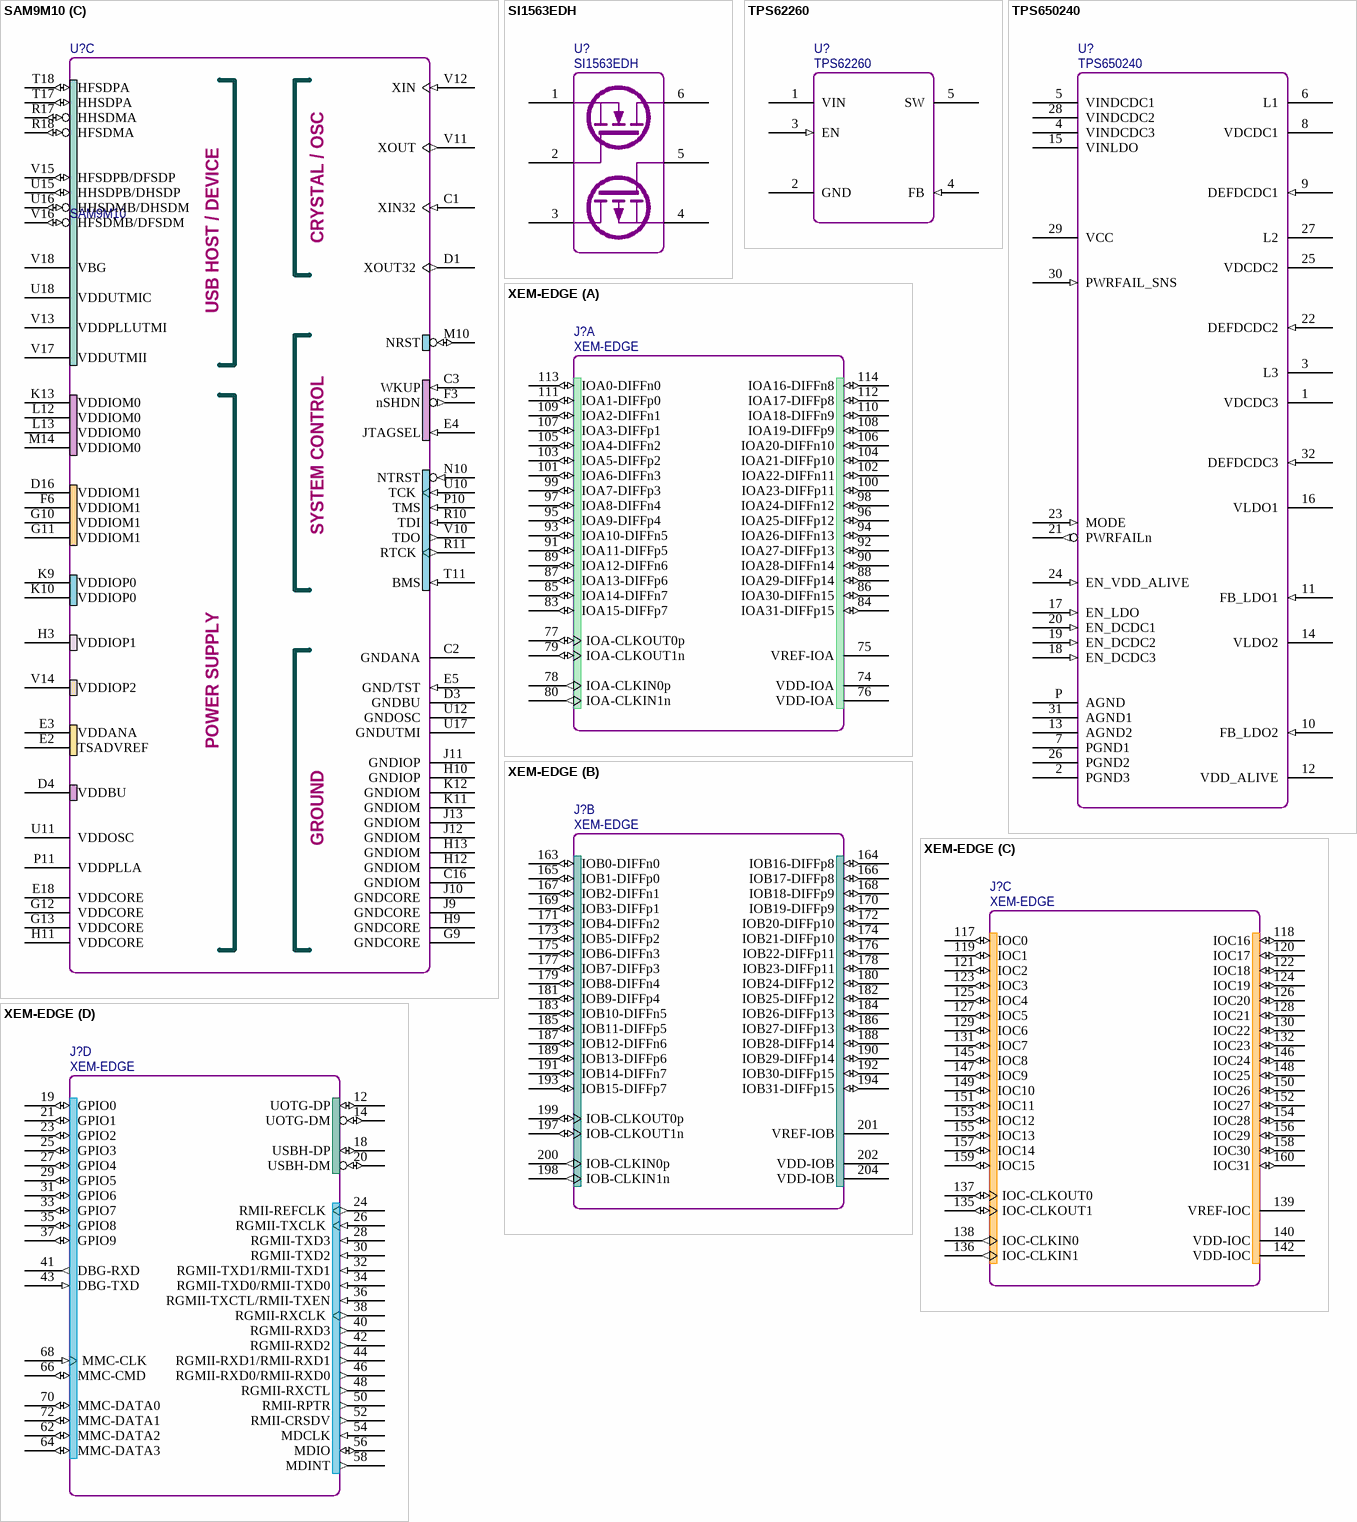
[diagram p5: symbols SAM9M10 to XEM-EDGE]

## SAM9M10
designator U?
SAM9M10 Embedded Processor; PartNumber: AT91SAM9M10-CU; PCBMarker: ARM9; SerialNumber: 0; Vendor: Atmel; Designer: shyul; Version: 1.0; VersionDate: 2-15-2012; Value: SAM9M10; Publisher: Cowin
footprint TFBGA-324
part A pins: A1 PC27/D27 (io), A2 PC28/D28 (io), A3 PC25/D25 (io), A4 PC20/D20 (io), A5 PC12/A25/CFRNW (out), A6 PC7/A24 (out), A7 PC5/A22/NAND_CLE (out), A8 PC0/DQM2 (out), A9 NWR3/NBS3 (out), A10 NCS0 (out), A11 DQS0 (out), A12 RAS (out), A13 SDCK (out), A14 NSDCK (out), A15 D7 (io), A16 DDR_VREF (in), A17 D0 (io), A18 A14 (out), B1 PC31/D31 (io), B2 PC29/D29 (io), B3 PC30/D30 (io), B4 PC22/D22 (io), B5 PC17/D17 (io), B6 PC10/NCS4/CFCS0/TCLK2 (out), B7 PC11/NCS5/CFCS1/CTS2 (out), B8 PC2/A19 (out), B9 SDA10 (out), B10 A17/BA1 (out), B11 DQM0 (out), B12 SDCKE (out), B13 D12 (io), B14 D8 (io), B15 D4 (io), B16 D3 (io), B17 A15 (out), B18 A13 (out), C4 PC26/D26 (io), C5 PC21/D21 (io), C6 PC15/NWAIT (in), C7 PC9/CFCE2/RTS2 (out), C8 PC3/A20 (out), C9 NWR0/NWE (out), C10 A16/BA0 (out), C11 CAS (out), C12 D15 (io), C13 D10 (io), C14 D6 (io), C15 D2 (io), C17 A18 (out), C18 A12 (out), D5 PC24/D24 (io), D6 PC18/D18 (io), D7 PC13/NCS2 (out), D8 PC6/A23 (out), D9 NWR1/NBS1 (out), D10 NAND_OE (out), D11 DQM1 (out), D12 D14 (io), D13 D9 (io), D14 D5 (io), D15 D1 (io), D17 A11 (out), D18 A10 (out), E6 PC23/D23 (io), E7 PC16/D16 (io), E8 PC8/CFCE1 (out), E9 PC1/DQM3 (out), E10 NAND_WE (out), E11 DQS1 (out), E12 D13 (io), E13 D11 (io), E14 A4 (out), E15 A8 (out), E16 A9 (out), E17 A7 (out), F7 PC19/D19 (io), F8 PC14/NCS3/NAND_CS (out), F9 PC4/A21/NAND_ALE (out), F10 NCS1/SDCS (out), F11 NRD (out), F12 SDWE (out), F13 A0/NBS0 (out), F14 A1/NBS2/NWR2 (out), F15 A3 (out), F16 A6 (out), F17 A5 (out), F18 A2 (out), G4 PE0/PCK0 (out), G14 DDR_DQM0 (out), G15 DDR_DQS1 (io), G16 DDR_BA1 (out), G17 DDR_BA0 (out), G18 DDR_DQS0 (io), H14 DDR_CS (out), H15 DDR_WE (out), H16 DDR_DQM1 (out), H17 DDR_CAS (out), H18 DDR_NCLK (out), J14 DDR_A12 (out), J15 DDR_A13 (out), J16 DDR_CKE (out), J17 DDR_RAS (out), J18 DDR_CLK (out), K14 DDR_A7 (out), K15 DDR_A8 (out), K16 DDR_A9 (out), K17 DDR_A11 (out), K18 DDR_A10 (out), L4 PE31/PCK1 (out), L14 DDR_A1 (out), L15 DDR_A3 (out), L16 DDR_A4 (out), L17 DDR_A6 (out), L18 DDR_A5 (out), M15 DDR_D14 (io), M16 DDR_D15 (io), M17 DDR_A0 (out), M18 DDR_A2 (out), N14 DDR_D13 (io), N15 DDR_D8 (io), N16 DDR_D9 (io), N17 DDR_D11 (io), N18 DDR_D12 (io), P14 DDR_D7 (io), P15 DDR_D3 (io), P16 DDR_D4 (io), P17 DDR_D5 (io), P18 DDR_D10 (io), R14 DDR_D6 (io), R15 DDR_D1 (io), R16 DDR_D0 (io), T14 DDR_D2 (io), V8 PD12/PCK0 (out)
part B pins: D2 PD20/TIOA0 (io), E1 PD21/TIOA1 (io), F1 PD22/TIOA2 (io), F2 PD24/PWM0 (out), F4 PE1/LCD_MOD (out), F5 PE3/LCD_VSYNC (out), G1 PD25/PWM1 (out), G2 PD23/TCLK0 (in), G3 PE6/LCD_DEN (out), G5 PE2/LCD_CC (out), G6 PE8/LCD_D1/D3 (out), G7 PE4/LCD_HSYNC (out), G8 PE11/LCD_D4/D6 (out), H1 PD26/PWM2 (out), H2 PD27 (io), H4 PE13/LCD_D6/D10 (out), H5 PE5/LCD_DOTCK (out), H6 PE7/LCD_D0/D2 (out), H7 PE9/LCD_D2/D4 (out), H8 PE10/LCD_D3/D5 (out), J1 PE19/LCD_D12/D18 (out), J2 PE16/LCD_D9/D13 (out), J3 PE14/LCD_D7/D11 (out), J4 PE15/LCD_D8/D12 (out), J5 PE12/LCD_D5/D7 (out), J6 PE17/LCD_D10/D14 (out), J7 PE18/LCD_D11/D15 (out), J8 PE20/LCD_D13/D19 (out), K1 PE21/LCD_D14/D20 (out), K2 PE23/LCD_D16/D22 (out), K3 PE26/LCD_D19 (out), K4 PE22/LCD_D15/D21 (out), K5 PE24/LCD_D17/D23 (out), K6 PE25/LCD_D18 (out), K7 PE27/LCD_D20 (out), K8 PE28/LCD_D21 (out), L1 PA0/MCI0_CK (io), L2 PE30/LCD_D23 (out), L3 PE29/LCD_D22 (out), L5 PA2/MCI0_DA0 (io), L6 PA4/MCI0_DA2 (io), L7 PA8 (io), L8 PD2 (io), L9 PD13 (io), L10 PD29/TCLK1 (in), L11 PD31/TIOB1 (io), M1 PA1/MCI0_CDA (io), M2 PA5/MCI0_DA3 (io), M3 PA6 (io), M4 PA7 (io), M5 PA10/ETX0 (out), M6 PA14/ETXEN (out), M7 PB14/SPI1_MISO (io), M8 PD4 (io), M9 PD15 (io), M11 PB11/ISI_D11 (in), M12 PB25/ISI_D5 (in), M13 PB27/ISI_D7 (in), N1 PA3/MCI0_DA1 (io), N2 PA9 (io), N3 PA12/ERX0 (in), N4 PA15/ERXDV (in), N5 PA16/ERPTR (in), N6 PA17/EREFCLK (in), N7 PB18/SPI0_NPCS1 (io), N8 PD6/AC97RX (in), N9 PD16/RTS1 (io), N11 PB9/ISI_D9 (in), N12 PB24/ISI_D4 (in), N13 PB28/ISI_PCK (in), P1 PA11/ETX1 (out), P2 PA13/ERX1 (in), P3 PA19/EMDIO (io), P4 PA21/TWCK0 (io), P5 PA23/MCI1_DA0 (io), P6 PB12/DBGU_RXD (in), P7 PB19/SPI0_NPCS2 (io), P8 PD8/AC97FS (out), P9 PD28/SPI1_NPCS1 (io), P12 PB20/ISI_D0 (in), P13 PB31/ISI_MCK (out), R1 PA18/EMDCK (out), R2 PA20/TWD0 (io), R3 PA24/MCI1_DA1 (io), R4 PA30 (io), R5 PB4/TXD1 (io), R6 PB13/DBGU_TXD (out), R7 PD0/PWM3 (io), R8 PD9/AC97CK (in), R9 PD18/IRQ (in), R12 PB22/ISI_D2 (in), R13 PB29/ISI_VSYNC (in), T1 PA22/MCI1_CDA (io), T2 PA25/MCI1_DA2 (io), T3 PA26/MCI1_DA3 (io), T4 PB0/SPI0_MISO (io), T5 PB6/TXD2 (io), T6 PB16/SPI1_SPCK (io), T7 PD1 (io), T8 PD11 (io), T9 PD19/FIQ (in), T10 PD30/TIOB0 (io), T12 PB8/ISI_D8 (in), T13 PB30/ISI_HSYNC (in), T15 PB21/ISI_D1 (in), T16 PB23/ISI_D3 (in), U1 PA27 (io), U2 PA29 (io), U3 PA28 (io), U4 PB3/SPI0_NPCS0 (io), U5 PB7/RXD2 (io), U6 PB17/SPI1_NPCS0 (io), U7 PD7/AC97TX (out), U8 PD10 (io), U9 PD14 (io), U13 PB10/ISI_D10 (in), U14 PB26/ISI_D6 (in), V1 PA31/MCI1_CK (io), V2 PB1/SPI0_MOSI (io), V3 PB2/SPI0_SPCK (io), V4 PB5/RXD1 (io), V5 PB15/SPI1_MOSI (io), V6 PD3 (io), V7 PD5 (io), V9 PD17/CTS1 (io)
part C pins: C1 XIN32 (in), C2 GNDANA, C3 WKUP (in), C16 GNDIOM, D1 XOUT32 (out), D3 GNDBU, D4 VDDBU, D16 VDDIOM1, E2 TSADVREF, E3 VDDANA, E4 JTAGSEL (in), E5 GND/TST (in), E18 VDDCORE, F3 nSHDN (out), F6 VDDIOM1, G9 GNDCORE, G10 VDDIOM1, G11 VDDIOM1, G12 VDDCORE, G13 VDDCORE, H3 VDDIOP1, H9 GNDCORE, H10 GNDIOP, H11 VDDCORE, H12 GNDIOM, H13 GNDIOM, J9 GNDCORE, J10 GNDCORE, J11 GNDIOP, J12 GNDIOM, J13 GNDIOM, K9 VDDIOP0, K10 VDDIOP0, K11 GNDIOM, K12 GNDIOM, K13 VDDIOM0, L12 VDDIOM0, L13 VDDIOM0, M10 NRST (io), M14 VDDIOM0, N10 NTRST (in), P10 TMS (in), P11 VDDPLLA, R10 TDI (in), R11 RTCK (out), R17 HHSDMA (io), R18 HFSDMA (io), T11 BMS (in), T17 HHSDPA (io), T18 HFSDPA (io), U10 TCK (in), U11 VDDOSC, U12 GNDOSC, U15 HHSDPB/DHSDP (io), U16 HHSDMB/DHSDM (io), U17 GNDUTMI, U18 VDDUTMIC, V10 TDO (out), V11 XOUT (out), V12 XIN (in), V13 VDDPLLUTMI, V14 VDDIOP2, V15 HFSDPB/DFSDP (io), V16 HFSDMB/DFSDM (io), V17 VDDUTMII, V18 VBG
part A text: MEM1 ADDRESS / CS / MISC; MEM1 DATA / 32-BIT; MEM1 SDRAM; MEM1 CONTROL; SYSCLK; MEM0 DATA / 16-BIT; MEM0 ADDRESS / CS / MISC; MEM0 DDR
part B text: SD/MMC; LCD; I2C; AC97; 100BASE-T RMII; ISI / CAMERA; DBGU; GPIO / IRQ; TIMER; PWM
part C text: CRYSTAL / OSC; USB HOST / DEVICE; SYSTEM CONTROL; POWER SUPPLY; GROUND

## SI1563EDH
designator U?
Complementary MOSFET; Vendor: VISHAY; SerialNumber: 0; PCBMarker: FET COMP; PinCountSMD: 6; Designer: shyul; PartNumber: SI1563EDH; Value: SI1563EDH; Version: 1.0; VersionDate: 02-21-2012; Publisher: Cowin; PinCountHole: 0
footprint SOT-363
pins: 1, 2, 3, 4, 5, 6

## TPS62260
designator U?
Simple Switch 600mA Adjustable; PartNumber: TPS62260DDCR; Vendor: TI; PinCountSMD: 5; PinCountHole: 0; Designer: shyul; PCBMarker: Power; Value: TPS62260; Version: 1.0; VersionDate: 05-08-2011; SerialNumber: 0; Publisher: Cowin; Supplier 1: Digi-Key; Supplier Part Number 1: 296-22469-2-ND
footprint SOT-23-5
pins: 1 VIN, 2 GND, 3 EN (in), 4 FB (in), 5 SW (power)
2 alternate drawings of the same symbol

## TPS650240
designator U?
Embedded Power Management IC; PartNumber: TPS650240RHBT; SerialNumber: 0; PinCountSMD: 33; PCBMarker: PMU; Designer: shyul; Vendor: TI; PinCountHole: 0; Publisher: Cowin; Version: 1.0; VersionDate: 05-09-2011; Value: TPS650240; Supplier 1: Digi-Key; Supplier Part Number 1: 296-22475-2-ND
footprint QFN-5-32
pins: 1 VDCDC3 (power), 2 PGND3 (power), 3 L3 (power), 4 VINDCDC3, 5 VINDCDC1, 6 L1 (power), 7 PGND1 (power), 8 VDCDC1 (power), 9 DEFDCDC1 (in), 10 FB_LDO2 (in), 11 FB_LDO1 (in), 12 VDD_ALIVE (power), 13 AGND2 (power), 14 VLDO2 (power), 15 VINLDO, 16 VLDO1 (power), 17 EN_LDO (in), 18 EN_DCDC3 (in), 19 EN_DCDC2 (in), 20 EN_DCDC1 (in), 21 PWRFAILn (out), 22 DEFDCDC2 (in), 23 MODE (in), 24 EN_VDD_ALIVE (in), 25 VDCDC2 (power), 26 PGND2 (power), 27 L2 (power), 28 VINDCDC2, 29 VCC, 30 PWRFAIL_SNS (in), 31 AGND1 (power), 32 DEFDCDC3 (in), P AGND (power)

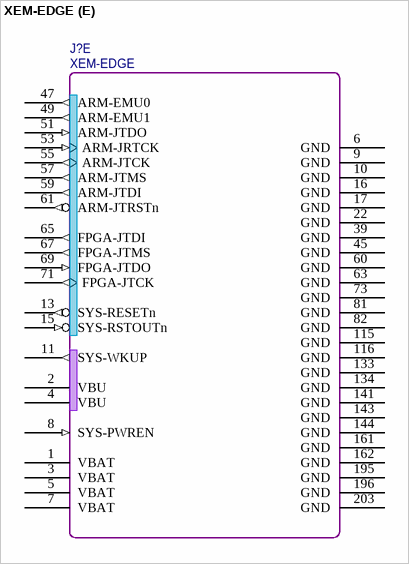
[diagram p6: symbol XEM-EDGE]

## XEM-EDGE
designator J?
XEM Edge Connector 204-pins; Vendor: Cowin; PinCountSMD: 0; Designer: shyul; Value: XEM-EDGE; PartNumber: XEM-EDGE; Version: 1.0; VersionDate: 03-09-2012; PinCountHole: 0; SerialNumber: 0; Publisher: Cowin; PCBMarker: XEM
footprint XEM-1C-204
part A pins: 74 VDD-IOA (power), 75 VREF-IOA (power), 76 VDD-IOA (power), 77 IOA-CLKOUT0p (io), 78 IOA-CLKIN0p (out), 79 IOA-CLKOUT1n (io), 80 IOA-CLKIN1n (out), 83 IOA15-DIFFp7 (io), 84 IOA31-DIFFp15 (io), 85 IOA14-DIFFn7 (io), 86 IOA30-DIFFn15 (io), 87 IOA13-DIFFp6 (io), 88 IOA29-DIFFp14 (io), 89 IOA12-DIFFn6 (io), 90 IOA28-DIFFn14 (io), 91 IOA11-DIFFp5 (io), 92 IOA27-DIFFp13 (io), 93 IOA10-DIFFn5 (io), 94 IOA26-DIFFn13 (io), 95 IOA9-DIFFp4 (io), 96 IOA25-DIFFp12 (io), 97 IOA8-DIFFn4 (io), 98 IOA24-DIFFn12 (io), 99 IOA7-DIFFp3 (io), 100 IOA23-DIFFp11 (io), 101 IOA6-DIFFn3 (io), 102 IOA22-DIFFn11 (io), 103 IOA5-DIFFp2 (io), 104 IOA21-DIFFp10 (io), 105 IOA4-DIFFn2 (io), 106 IOA20-DIFFn10 (io), 107 IOA3-DIFFp1 (io), 108 IOA19-DIFFp9 (io), 109 IOA2-DIFFn1 (io), 110 IOA18-DIFFn9 (io), 111 IOA1-DIFFp0 (io), 112 IOA17-DIFFp8 (io), 113 IOA0-DIFFn0 (io), 114 IOA16-DIFFn8 (io)
part B pins: 163 IOB0-DIFFn0 (io), 164 IOB16-DIFFp8 (io), 165 IOB1-DIFFp0 (io), 166 IOB17-DIFFp8 (io), 167 IOB2-DIFFn1 (io), 168 IOB18-DIFFp9 (io), 169 IOB3-DIFFp1 (io), 170 IOB19-DIFFp9 (io), 171 IOB4-DIFFn2 (io), 172 IOB20-DIFFp10 (io), 173 IOB5-DIFFp2 (io), 174 IOB21-DIFFp10 (io), 175 IOB6-DIFFn3 (io), 176 IOB22-DIFFp11 (io), 177 IOB7-DIFFp3 (io), 178 IOB23-DIFFp11 (io), 179 IOB8-DIFFn4 (io), 180 IOB24-DIFFp12 (io), 181 IOB9-DIFFp4 (io), 182 IOB25-DIFFp12 (io), 183 IOB10-DIFFn5 (io), 184 IOB26-DIFFp13 (io), 185 IOB11-DIFFp5 (io), 186 IOB27-DIFFp13 (io), 187 IOB12-DIFFn6 (io), 188 IOB28-DIFFp14 (io), 189 IOB13-DIFFp6 (io), 190 IOB29-DIFFp14 (io), 191 IOB14-DIFFn7 (io), 192 IOB30-DIFFp15 (io), 193 IOB15-DIFFp7 (io), 194 IOB31-DIFFp15 (io), 197 IOB-CLKOUT1n (io), 198 IOB-CLKIN1n (out), 199 IOB-CLKOUT0p (io), 200 IOB-CLKIN0p (out), 201 VREF-IOB (power), 202 VDD-IOB (power), 204 VDD-IOB (power)
part C pins: 117 IOC0 (io), 118 IOC16 (io), 119 IOC1 (io), 120 IOC17 (io), 121 IOC2 (io), 122 IOC18 (io), 123 IOC3 (io), 124 IOC19 (io), 125 IOC4 (io), 126 IOC20 (io), 127 IOC5 (io), 128 IOC21 (io), 129 IOC6 (io), 130 IOC22 (io), 131 IOC7 (io), 132 IOC23 (io), 135 IOC-CLKOUT1 (io), 136 IOC-CLKIN1 (out), 137 IOC-CLKOUT0 (io), 138 IOC-CLKIN0 (out), 139 VREF-IOC (power), 140 VDD-IOC (power), 142 VDD-IOC (power), 145 IOC8 (io), 146 IOC24 (io), 147 IOC9 (io), 148 IOC25 (io), 149 IOC10 (io), 150 IOC26 (io), 151 IOC11 (io), 152 IOC27 (io), 153 IOC12 (io), 154 IOC28 (io), 155 IOC13 (io), 156 IOC29 (io), 157 IOC14 (io), 158 IOC30 (io), 159 IOC15 (io), 160 IOC31 (io)
part D pins: 12 UOTG-DP (io), 14 UOTG-DM (io), 18 USBH-DP (io), 19 GPIO0 (io), 20 USBH-DM (io), 21 GPIO1 (io), 23 GPIO2 (io), 24 RMII-REFCLK (out), 25 GPIO3 (io), 26 RGMII-TXCLK (in), 27 GPIO4 (io), 28 RGMII-TXD3 (in), 29 GPIO5 (io), 30 RGMII-TXD2 (in), 31 GPIO6 (io), 32 RGMII-TXD1/RMII-TXD1 (in), 33 GPIO7 (io), 34 RGMII-TXD0/RMII-TXD0 (in), 35 GPIO8 (io), 36 RGMII-TXCTL/RMII-TXEN (in), 37 GPIO9 (io), 38 RGMII-RXCLK (out), 40 RGMII-RXD3 (out), 41 DBG-RXD (out), 42 RGMII-RXD2 (out), 43 DBG-TXD (in), 44 RGMII-RXD1/RMII-RXD1 (out), 46 RGMII-RXD0/RMII-RXD0 (out), 48 RGMII-RXCTL (out), 50 RMII-RPTR (out), 52 RMII-CRSDV (out), 54 MDCLK (in), 56 MDIO (io), 58 MDINT (out), 62 MMC-DATA2 (io), 64 MMC-DATA3 (io), 66 MMC-CMD (io), 68 MMC-CLK (in), 70 MMC-DATA0 (io), 72 MMC-DATA1 (io)
part E pins: 1 VBAT (power), 2 VBU (power), 3 VBAT (power), 4 VBU (power), 5 VBAT (power), 6 GND, 7 VBAT (power), 8 SYS-PWREN (in), 9 GND, 10 GND, 11 SYS-WKUP (out), 13 SYS-RESETn (out), 15 SYS-RSTOUTn (in), 16 GND, 17 GND, 22 GND, 39 GND, 45 GND, 47 ARM-EMU0 (out), 49 ARM-EMU1 (out), 51 ARM-JTDO (in), 53 ARM-JRTCK (in), 55 ARM-JTCK (out), 57 ARM-JTMS (out), 59 ARM-JTDI (out), 60 GND, 61 ARM-JTRSTn (out), 63 GND, 65 FPGA-JTDI (out), 67 FPGA-JTMS (out), 69 FPGA-JTDO (in), 71 FPGA-JTCK (out), 73 GND, 81 GND, 82 GND, 115 GND, 116 GND, 133 GND, 134 GND, 141 GND, 143 GND, 144 GND, 161 GND, 162 GND, 195 GND, 196 GND, 203 GND
2 alternate drawings of the same symbol